# EAGLE library part RA-4 (library RoboJackets-Resistors)
Isolated Network Resistor Array x4
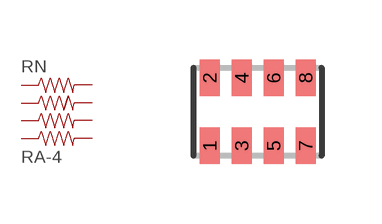
[diagram p0: symbol with the pads of RA-4_1206; footprint RA-4_1206]

Designator prefix RN

## RA-41206  [RA-4_1206]
1  1  pas
2  2  pas
3  3  pas
4  4  pas
5  5  pas
6  6  pas
7  7  pas
8  8  pas

## Footprint RA-4_1206 (pad centres in mm)
Chip Resistor Array <http://www.ctscorp.com/components/Datasheets/CTSChipArrayDs.pdf>
smd 0.5 x 0.9: 1 -1.2,-0.85; 2 -1.2,0.85; 3 -0.4,-0.85; 4 -0.4,0.85; 5 0.4,-0.85; 6 0.4,0.85; 7 1.2,-0.85; 8 1.2,0.85